# Altium integrated library CAN_Logger_V1I1.IntLib: 21 symbols
Pins are listed as number, name and electrical type; pins without a type are passive.

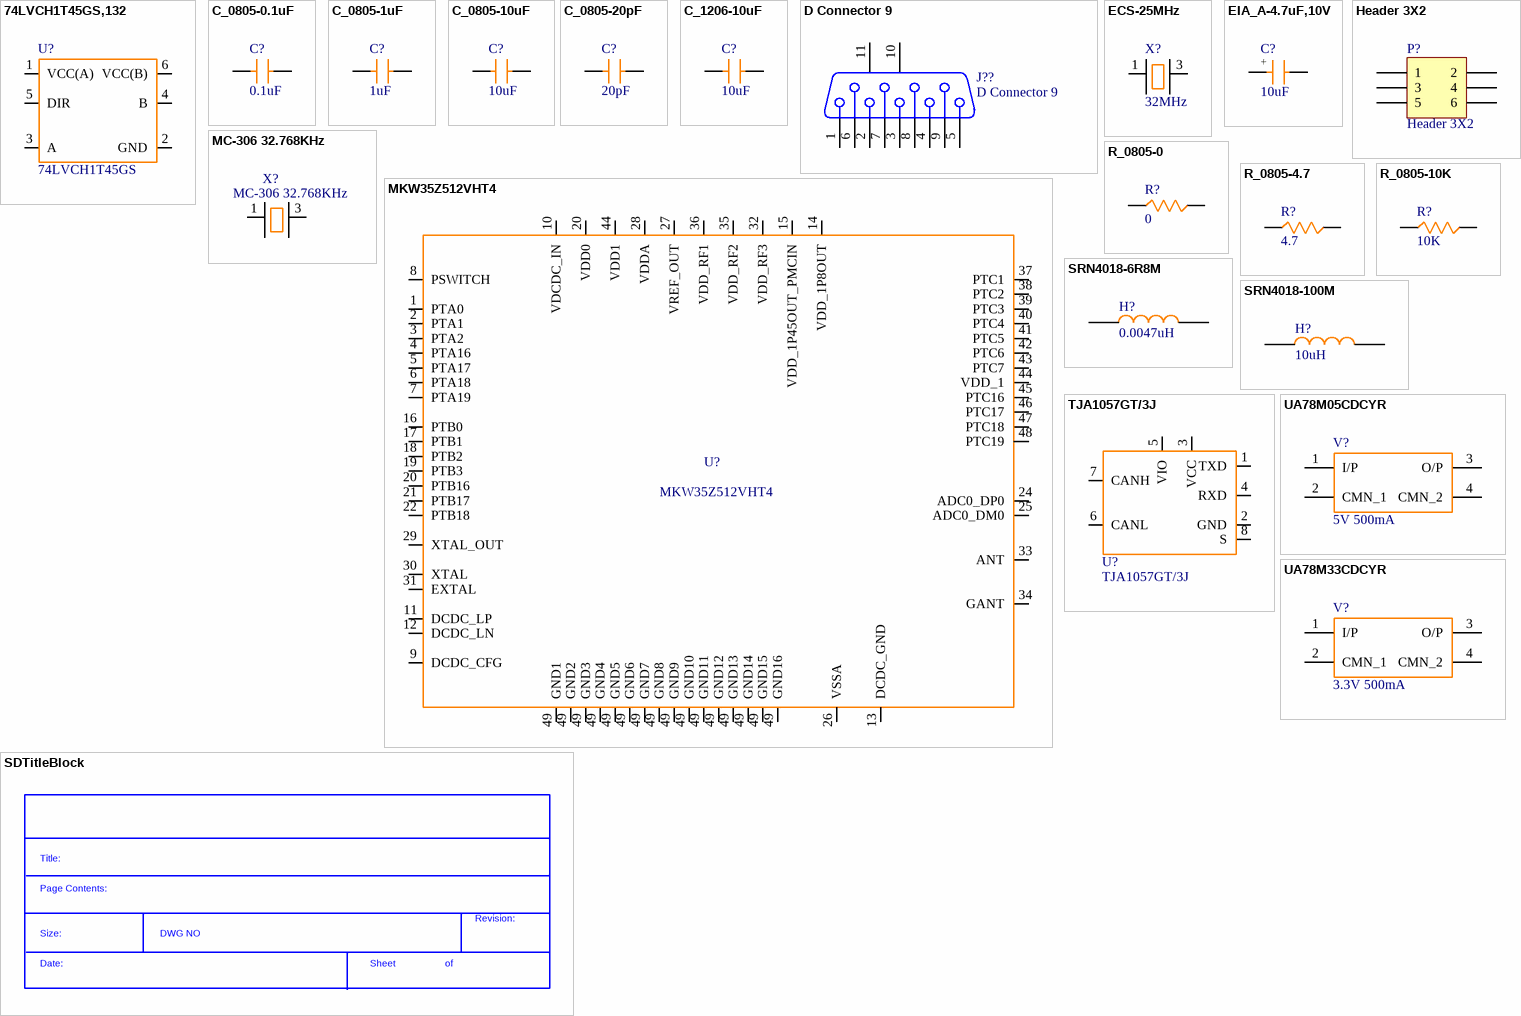
[diagram p0: symbols 74LVCH1T45GS,132 to UA78M33CDCYR]

## 74LVCH1T45GS,132
designator U?, comment 74LVCH1T45GS
Bus Transceivers 3.6V 250mW 8.2ns; Manufacturer: Nexperia; Manufacturer Part Number: 74LVCH1T45GS,132; Supply Voltage - Max: 5.5 V; Supply Voltage - Min: 1.2 V; Supplier 1: Mouser; RoHS: RoHS Compliant; Category: Bus Transceivers; Stock 1: 7431; Pricing 1: 1=0.590, 10=0.487, 100=0.314, 1000=0.252, 5000=0.212, 10000=0.204, 25000=0.197, 50000=0.193 (USD); Package / Case: XSON-6; Packaging: Cut Tape; Brand: Nexperia; Mounting Style: SMD/SMT; Maximum Operating Temperature: + 125 C; Pd - Power Dissipation: 250 mW; Product Type: Bus Transceivers; Propagation Delay Time: 8.2 ns; Standard Pack Qty: 5000; Subcategory: Logic ICs; RoHS - Mouser: Y; Minimum Order Quantity: 1; Reeling: True; ComponentLink1URL: https://www.mouser.com/datasheet/2/916/74LVC_LVCH1T45-1319147.pdf; ComponentLink1Description: https://www.mouser.com/datasheet/2/916/74LVC_LVCH1T45-1319147.pdf; Supplier Part Number 1: 771-74LVCH1T45GS132
footprint 74LVCH1T45GS,132
pins: 1 VCC(A), 2 GND, 3 A, 4 B, 5 DIR, 6 VCC(B)

## C_0805-0.1uF
designator C?, comment 0.1uF
Multilayer Ceramic Capacitors MLCC - SMD/SMT 0.1uF 10% 50V AEC-Q200; Manufacturer: Yageo; Manufacturer Part Number: AS0805KKX7R9BB104; Voltage Rating DC: 50 VDC; Capacitance - nF: 100 nF; Capacitance - pF: 100000 pF; CNHTS: 8532241000; Dielectric: X7R; TARIC: 8532240000; Product Status: New Product; Supplier 1: Mouser; RoHS: RoHS Compliant; Category: Multilayer Ceramic Capacitors MLCC - SMD/SMT; Stock 1: 30283; Pricing 1: 1=0.670, 10=0.461, 100=0.262, 500=0.238, 1000=0.165, 3000=0.156, 6000=0.146, 9000=0.136, 24000=0.122 (USD); Capacitance: 0.1 uF; Height: 1.25 mm; Length: 2 mm; Package / Case: 0805 (2012 metric); Packaging: Cut Tape; Product: Automotive MLCCs; Series: AS; Termination Style: SMD/SMT; Tolerance: 10 %; Width: 1.25 mm; Brand: Yageo; Case Code - in: 0805; Case Code - mm: 2212; HTS Code: 8532240020; Maximum Operating Temperature: + 125 C; Minimum Operating Temperature: - 55 C; Product Type: Ceramic Capacitors; Standard Pack Qty: 3000; Subcategory: Capacitors; Termination: Flexible (Soft); RoHS - Mouser: Y; Minimum Order Quantity: 1; Reeling: True; ComponentLink1URL: http://www.mouser.com/datasheet/2/447/yageodocoutput-1313910.pdf; ComponentLink1Description: http://www.mouser.com/datasheet/2/447/yageodocoutput-1313910.pdf; Supplier Part Number 1: 603-AS0805KKX79BB104
footprint C0805
pins: 1, 2

## C_0805-1uF
designator C?, comment 1uF
Multilayer Ceramic Capacitors MLCC - SMD/SMT 10V 1uF X7R 0805 10%; Manufacturer: KEMET; Manufacturer Part Number: C0805C105K8RAC7210; Voltage Rating DC: 10 VDC; Capacitance - nF: 1000 nF; Class: Class 2; Product Status: New Product; Supplier 1: Mouser; RoHS: RoHS Compliant; Category: Multilayer Ceramic Capacitors MLCC - SMD/SMT; Stock 1: 38596; Pricing 1: 1=0.230, 10=0.104, 100=0.064, 500=0.057, 1000=0.048, 2000=0.041, 10000=0.036, 15000=0.032, 45000=0.028 (USD); Capacitance: 1 uF; Height: 0.9 mm; Length: 2 mm; Package / Case: 0805 (2012 metric); Packaging: Cut Tape; Product: General Type MLCCs; Series: SMD Comm X7R; Termination Style: SMD/SMT; Tolerance: 10 %; Width: 1.25 mm; Brand: KEMET; Case Code - in: 0805; Case Code - mm: 2012; Dielectric: X7R; Maximum Operating Temperature: + 125 C; Minimum Operating Temperature: - 55 C; Product Type: Ceramic Capacitors; Standard Pack Qty: 15000; Subcategory: Capacitors; Termination: Standard; RoHS - Mouser: Y; Minimum Order Quantity: 1; Reeling: True; ComponentLink1URL: https://www.mouser.com/datasheet/2/212/KEM_C1002_X7R_SMD-1102033.pdf; ComponentLink1Description: https://www.mouser.com/datasheet/2/212/KEM_C1002_X7R_SMD-1102033.pdf; Supplier Part Number 1: 80-C0805C105K8R7210
footprint C0805
pins: 1, 2

## C_0805-10uF
designator C?, comment 10uF
Multilayer Ceramic Capacitors MLCC - SMD/SMT 10uF 10% 25V; Manufacturer: Yageo; Manufacturer Part Number: CC0805KFX5R8BB106; Type: MLCC Surface Mount Ceramic Capacitor; Voltage Rating DC: 25 VDC; Class: Class 2; CNHTS: 8532241000; Dielectric: X5R; TARIC: 8532240000; Product Status: New Product; Supplier 1: Mouser; RoHS: RoHS Compliant; Category: Multilayer Ceramic Capacitors MLCC - SMD/SMT; Stock 1: 9112; Pricing 1: 1=0.550, 10=0.342, 100=0.175, 1000=0.158, 2500=0.110, 10000=0.106, 20000=0.103, 50000=0.096, 100000=0.089 (USD); Capacitance: 10 uF; Height: 1.25 mm; Length: 2 mm; Package / Case: 0805 (2012 metric); Packaging: Cut Tape; Product: General Type MLCCs; Series: CC; Termination Style: SMD/SMT; Tolerance: 10 %; Width: 1.25 mm; Brand: Yageo; Case Code - in: 0805; Case Code - mm: 2012; HTS Code: 8532240020; Maximum Operating Temperature: + 85 C; Minimum Operating Temperature: - 55 C; Product Type: Ceramic Capacitors; Standard Pack Qty: 10000; Subcategory: Capacitors; Termination: Standard; RoHS - Mouser: Y; Minimum Order Quantity: 1; Reeling: True; ComponentLink1URL: http://www.mouser.com/datasheet/2/447/UPY-GPHC_X5R_4V-to-50V_25-1131599.pdf; ComponentLink1Description: http://www.mouser.com/datasheet/2/447/UPY-GPHC_X5R_4V-to-50V_25-1131599.pdf; Supplier Part Number 1: 603-CC0805KFX5R8BB10
footprint C0805
pins: 1, 2

## C_0805-20pF
designator C?, comment 20pF
Multilayer Ceramic Capacitors MLCC - SMD/SMT 20pF 100volts C0G 5%; Manufacturer: Vishay / Vitramon; Manufacturer Part Number: VJ0805A200JXBAC; Type: Commercial SMD MLCCs; Voltage Rating DC: 100 VDC; Class: Class 1; CNHTS: 8532241000; Compliance: Take; Dielectric: C0G (NP0); TARIC: 8532240000; Supplier 1: Mouser; RoHS: In Transition; Category: Multilayer Ceramic Capacitors MLCC - SMD/SMT; Stock 1: 4908; Pricing 1: 1=0.330, 50=0.250, 100=0.200, 500=0.160, 1000=0.130, 3000=0.090, 6000=0.077, 9000=0.075, 12000=0.072 (USD); Capacitance: 20 pF; Height: 1.45 mm; Length: 2 mm; Package / Case: 0805 (2012 metric); Packaging: Cut Tape; Product: General Type MLCCs; Series: VJ COMM; Termination Style: SMD/SMT; Tolerance: 5 %; Width: 1.25 mm; Brand: Vishay / Vitramon; Case Code - in: 0805; Case Code - mm: 2012; HTS Code: 8532240020; Maximum Operating Temperature: + 150 C; Minimum Operating Temperature: - 55 C; Product Type: Ceramic Capacitors; Standard Pack Qty: 3000; Subcategory: Capacitors; Termination: Standard; RoHS - Mouser: T; Minimum Order Quantity: 1; Reeling: True; ComponentLink1URL: https://www.mouser.com/datasheet/2/427/vjcommercialseries-222796.pdf; ComponentLink1Description: https://www.mouser.com/datasheet/2/427/vjcommercialseries-222796.pdf; Supplier Part Number 1: 77-VJ0805A200JXBAC
footprint C0805
pins: 1, 2

## C_1206-10uF
designator C?, comment 10uF
Multilayer Ceramic Capacitors MLCC - SMD/SMT 10uF Y5V -20/+80% 50V; Manufacturer: Yageo; Manufacturer Part Number: CC1210ZKY5V9BB106; Tolerance: - 20 %, + 80 %; Type: MLCC Surface Mount Ceramic Capacitor; Voltage Rating DC: 50 VDC; Class: Class 2; Supplier 1: Mouser; RoHS: RoHS Compliant; Category: Multilayer Ceramic Capacitors MLCC - SMD/SMT; Stock 1: 4065; Pricing 1: 1=0.760, 10=0.524, 100=0.298, 500=0.287, 1000=0.279, 2000=0.270 (USD); Capacitance: 10 uF; Height: 1.5 mm; Length: 3.2 mm; Package / Case: 1210 (3225 metric); Packaging: Cut Tape; Product: General Type MLCCs; Series: CC; Termination Style: SMD/SMT; Width: 2.5 mm; Brand: Yageo; Case Code - in: 1210; Case Code - mm: 3225; Dielectric: Y5V; Maximum Operating Temperature: + 85 C; Minimum Operating Temperature: - 30 C; Product Type: Ceramic Capacitors; Standard Pack Qty: 2000; Subcategory: Capacitors; Termination: Standard; RoHS - Mouser: Y; Minimum Order Quantity: 1; Reeling: True; ComponentLink1URL: https://www.mouser.com/datasheet/2/447/UPY-GPHC_Y5V_6.3V-to-50V_8-1280790.pdf; ComponentLink1Description: https://www.mouser.com/datasheet/2/447/UPY-GPHC_Y5V_6.3V-to-50V_8-1280790.pdf; Supplier Part Number 1: 603-CC121ZKY5V9BB106
footprint C1206
pins: 1, 2

## D Connector 9
designator J??
Receptacle Assembly, 9 Position, Right Angle; PackageDocument: O; Positions: 9; Published: 15-Jun-2001; LatestRevisionDate: 17-Jul-2002; LatestRevisionNote: Re-released for DXP Platform.; DatasheetDocument: 1-Sep-1999; PackageReference: 788750; Publisher: Altium Limited; Orientation: Right Angle; Gender: Receptacle
footprint DSUB1.385-2H9 (Connector; D Subminiature; 9 Position; Right Angle; Pitch 1.385 mm)
signal-integrity model Connector
pins: 1, 2, 3, 4, 5, 6, 7, 8, 9, 10 MH1, 11 MH2

## ECS-25MHz
designator X?, comment 32MHz
Crystals 25MHz 20ppm 18pF -40C +85C; Manufacturer: ECS; Manufacturer Part Number: ECS-250-18-30B-JTN-TR; Drive Level: 300 uW; Supplier 1: Mouser; RoHS: RoHS Compliant; Category: Crystals; Stock 1: 1092; Pricing 1: 1=0.700, 10=0.575, 50=0.518, 100=0.460, 500=0.438, 1000=0.368, 2000=0.345, 5000=0.334, 10000=0.322 (USD); Frequency: 25 MHz; Frequency Stability: 20 PPM; Height: 0.85 mm; Length: 5 mm; Load Capacitance: 18 pF; Package / Case: 5 mm x 3.2 mm; Packaging: Cut Tape; Product: Crystals; Series: ECX-53B; Termination Style: SMD/SMT; Tolerance: 20 PPM; Width: 3.2 mm; Brand: ECS; Mounting Style: SMD/SMT; Maximum Operating Temperature: + 85 C; Minimum Operating Temperature: - 40 C; Product Type: Crystals; Standard Pack Qty: 1000; Subcategory: Crystals; RoHS - Mouser: Y; Minimum Order Quantity: 1; Reeling: True; ComponentLink1URL: https://www.mouser.com/datasheet/2/122/ecx_53b-1479911.pdf; ComponentLink1Description: https://www.mouser.com/datasheet/2/122/ecx_53b-1479911.pdf; Supplier Part Number 1: 520-250-18-30B-JTNT
footprint ECS-250-18-30B-JTN-TR (Crystal 25mhz 18pf Smd)
pins: 1, 3

## EIA_A-4.7uF,10V
designator C?, comment 10uF
Tantalum Capacitors - Polymer SMD 10V 4.7uF 20% 1206 ESR=300mOhm; Manufacturer: AVX; Manufacturer Part Number: TCJK475M010R0300; Mfr Case Code: K Case; Type: Tantalum Solid Electrolytic Chip Capacitors with Conductive Polymer Electrode; Voltage Rating DC: 10 VDC; ESR: 300 mOhms; Leakage Current: 4.7 uA; Dissipation Factor DF: 6 %; Ripple Current: 400 mA; Supplier 1: Mouser; RoHS: RoHS Compliant; Category: Tantalum Capacitors - Polymer SMD; Stock 1: 1411; Pricing 1: 1=1.08, 10=0.911, 100=0.485, 500=0.437, 1000=0.398, 3000=0.267, 24000=0.257, 45000=0.247 (USD); Capacitance: 4.7 uF; Height: 1 mm; Length: 3.2 mm; Package / Case: 1206 (3216 metric); Packaging: Cut Tape; Product: Tantalum Organic Polymer Standard Grade; Series: TCJ; Termination Style: SMD/SMT; Tolerance: 20 %; Width: 1.6 mm; Brand: AVX; Case Code - in: 1206; Case Code - mm: 3216; Maximum Operating Temperature: + 105 C; Minimum Operating Temperature: - 55 C; Product Type: Tantalum Capacitors; Standard Pack Qty: 3000; Subcategory: Capacitors; RoHS - Mouser: Y; Minimum Order Quantity: 1; Reeling: True; ComponentLink1URL: https://www.mouser.com/datasheet/2/40/tcj-776064.pdf; ComponentLink1Description: https://www.mouser.com/datasheet/2/40/tcj-776064.pdf; Supplier Part Number 1: 581-TCJK475M010R0300
footprint C1206
pins: 1, 2
text: +

## Header 3X2
designator P?
Header, 3-Pin, Dual row; LatestRevisionDate: 17-Jul-2002; LatestRevisionNote: Re-released for DXP Platform.; Publisher: Altium Limited
footprint HDR2X3 (Connector; Header; 3x2 Position)
signal-integrity model Connector
pins: 1, 2, 3, 4, 5, 6

## MC-306 32.768KHz
designator X?
Crystals 32.768KHz 12.5pF 20ppm -40C +85C; Manufacturer: Epson Timing; Manufacturer Part Number: MC-306 32.7680K-A0:ROHS; ESR: 50 kOhms; CNHTS: 8541600000; Drive Level: 1 uW; MXHTS: 85416001; Supplier 1: Mouser; RoHS: RoHS Compliant By Exemption; Category: Crystals; Stock 1: 78752; Pricing 1: 1=0.430, 10=0.350, 50=0.316, 100=0.280, 500=0.246, 1000=0.224, 2000=0.210, 5000=0.203, 10000=0.196 (USD); Frequency: 32.768 kHz; Height: 2.54 mm; Length: 8 mm; Load Capacitance: 12.5 pF; Package / Case: 8 mm x 3.8 mm; Packaging: Cut Tape; Series: MC-306/MC-405/MC-406; Termination Style: SMD/SMT; Tolerance: 20 PPM; Type: Quartz Crystal; Width: 3.8 mm; Brand: Epson Timing; Mounting Style: SMD/SMT; HTS Code: 8541600010; Maximum Operating Temperature: + 85 C; Minimum Operating Temperature: - 40 C; Product Type: Crystals; Standard Pack Qty: 1000; Subcategory: Crystals; TARIC: 8541600000; RoHS - Mouser: E; Minimum Order Quantity: 1; Reeling: True; ComponentLink1URL: http://www.mouser.com/datasheet/2/137/C-306_en-1109110.pdf; ComponentLink1Description: http://www.mouser.com/datasheet/2/137/C-306_en-1109110.pdf; Supplier Part Number 1: 732-MC30632.7680KA0R
footprint MC-306_32.768KHz (Crystals 32.768KHz 12.5pF 20ppm -40C +85C)
pins: 1, 3

## MKW35Z512VHT4
designator U?
RF System on a Chip - SoC Kinetis W 32-bit MCU, ARM Cortex-M0+, 512KB Flash, 64KB SRAM, 48MHz, BLE, 48LQFN; Manufacturer: NXP Semiconductors; Operating Frequency: 2.4 GHz; Output Power: 3.5 dBm; Sensitivity: - 95 dBm; Interface Type: Serial; ADC Resolution: 16 bit; Core: ARM Cortex M0+; Operating Supply Voltage: 2.1 V to 3.6 V; Supply Current Receiving: 6.3 mA; Supply Current Transmitting: 5.7 mA; Product Status: New Product; Supplier 1: Mouser; Manufacturer Part Number: MKW35Z512VHT4; RoHS: RoHS Compliant; Category: RF System on a Chip - SoC; Stock 1: 259; Pricing 1: 1=6.12, 10=5.53, 25=4.96, 100=4.58, 250=4.50, 500=3.99, 1000=3.47, 2000=3.34 (USD); Package / Case: QFN-48; Program Memory Type: Flash; Series: KW35; Type: Bluetooth; Brand: NXP Semiconductors; Data RAM Size: 64 kB; Data RAM Type: SRAM; Mounting Style: SMD/SMT; Program Memory Size: 512 kB; Maximum Clock Frequency: 48 MHz; Maximum Operating Temperature: + 105 C; Minimum Operating Temperature: - 40 C; Product Type: RF System on a Chip - SoC; Standard Pack Qty: 260; Subcategory: Wireless & RF Integrated Circuits; Tradename: Kinetis; RoHS - Mouser: Y; Minimum Order Quantity: 1; Reeling: False; ComponentLink1URL: https://www.mouser.com/datasheet/2/302/MKW36Z512-1483673.pdf; ComponentLink1Description: https://www.mouser.com/datasheet/2/302/MKW36Z512-1483673.pdf; Supplier Part Number 1: 771-MKW35Z512VHT4
footprint MKW35Z512VHT4 (RF System on a Chip - SoC Kinetis W 32-bit MCU, ARM Cortex-M0+, 512KB Flash, 64KB SRAM, 48MHz, BLE, 48LQFN)
pins: 1 PTA0, 2 PTA1, 3 PTA2, 4 PTA16, 5 PTA17, 6 PTA18, 7 PTA19, 8 PSWITCH, 9 DCDC_CFG, 10 VDCDC_IN, 11 DCDC_LP, 12 DCDC_LN, 13 DCDC_GND, 14 VDD_1P8OUT, 15 VDD_1P45OUT_PMCIN, 16 PTB0, 17 PTB1, 18 PTB2, 19 PTB3, 20 PTB16, 20 VDD0, 21 PTB17, 22 PTB18, 24 ADC0_DP0, 25 ADC0_DM0, 26 VSSA, 27 VREF_OUT, 28 VDDA, 29 XTAL_OUT, 30 XTAL, 31 EXTAL, 32 VDD_RF3, 33 ANT, 34 GANT, 35 VDD_RF2, 36 VDD_RF1, 37 PTC1, 38 PTC2, 39 PTC3, 40 PTC4, 41 PTC5, 42 PTC6, 43 PTC7, 44 VDD_1, 44 VDD1, 45 PTC16, 46 PTC17, 47 PTC18, 48 PTC19, 49 GND1, 49 GND2, 49 GND3, 49 GND4, 49 GND5, 49 GND6, 49 GND7, 49 GND8, 49 GND9, 49 GND10, 49 GND11, 49 GND12, 49 GND13, 49 GND14, 49 GND15, 49 GND16

## R_0805-0
designator R?, comment 0
Current Sense Resistors - SMD 0 ohm Jumper 1/2W; Manufacturer: Yageo; Manufacturer Part Number: PA0805-R-470RL; Power Rating: 500 mW (1/2 W); Resistance: 0 Ohms; CNHTS: 8533211000; TARIC: 8533210000; Product Status: New Product; Supplier 1: Mouser; RoHS: RoHS Compliant; Category: Current Sense Resistors - SMD; Stock 1: 3927; Pricing 1: 1=1.30, 10=1.06, 100=0.706, 500=0.595, 1000=0.495, 5000=0.431, 10000=0.421, 25000=0.409 (USD); Application: Current Sense; Length: 2.03 mm; Packaging: Cut Tape; Product: Current Sense Chip Resistor Surface Mount; Series: PA_L; Technology: Metal Element; Termination Style: SMD/SMT; Tolerance: -; Type: Low TCR Current Sense Resistor; Width: 1.27 mm; Brand: Yageo; Mounting Style: PCB Mount; Case Code - in: 0805; Case Code - mm: 2012; HTS Code: 8533210030; Maximum Operating Temperature: + 155 C; Minimum Operating Temperature: - 55 C; Product Type: Current Sense Resistors; Standard Pack Qty: 5000; Subcategory: Resistors; Termination: 2 Terminal; RoHS - Mouser: Y; Minimum Order Quantity: 1; Reeling: True; ComponentLink1URL: http://www.mouser.com/datasheet/2/447/PYu-PA0805_L_51_RoHS_0-1480254.pdf; ComponentLink1Description: http://www.mouser.com/datasheet/2/447/PYu-PA0805_L_51_RoHS_0-1480254.pdf; Supplier Part Number 1: 603-PA0805-R-470RL
footprint R0805
pins: 1, 2

## R_0805-4.7
designator R?, comment 4.7
Thin Film Resistors - SMD 4.7 ohm 1% 50 ppm High-Precision; Manufacturer: Yageo; Manufacturer Part Number: RT0805FRE074R7L; Power Rating: 125 mW (1/8 W); Resistance: 4.7 Ohms; Temperature Coefficient: 50 PPM / C; Voltage Rating: 150 V; Product Status: New Product; Supplier 1: Mouser; RoHS: RoHS Compliant; Category: Thin Film Resistors - SMD; Stock 1: 0; Pricing 1: 1=0.180, 10=0.112, 100=0.037, 1000=0.026, 5000=0.019, 10000=0.018, 25000=0.017 (USD); Features: -; Height: 0.5 mm; Length: 2 mm; Package / Case: 0805 (2012 metric); Packaging: Cut Tape; Product: Precision Resistors Thin Film SMD; Series: RT; Termination Style: SMD/SMT; Tolerance: 1 %; Width: 1.25 mm; Brand: Yageo; Case Code - in: 0805; Case Code - mm: 2012; Maximum Operating Temperature: + 155 C; Minimum Operating Temperature: - 55 C; Standard Pack Qty: 5000; RoHS - Mouser: Y; Minimum Order Quantity: 1; Reeling: True; ComponentLink1URL: https://www.mouser.com/datasheet/2/447/PYu-RT_1-to-0.01_RoHS_L_9-1222720.pdf; ComponentLink1Description: https://www.mouser.com/datasheet/2/447/PYu-RT_1-to-0.01_RoHS_L_9-1222720.pdf; Supplier Part Number 1: 603-RT0805FRE074R7L
footprint R0805
pins: 1, 2

## R_0805-10K
designator R?, comment 10K
Thick Film Resistors - SMD 10K   OHM   1% 1/4W; Manufacturer: Yageo; Manufacturer Part Number: RC0805FR-7W10KL; Power Rating: 125 mW, 250 mW; Resistance: 10 kOhms; Temperature Coefficient: 100 PPM / C; Voltage Rating: 150 V; CNHTS: 8533211000; MXHTS: 85332101; TARIC: 8533210000; Supplier 1: Mouser; RoHS: RoHS Compliant; Category: Thick Film Resistors - SMD; Stock 1: 8240; Pricing 1: 1=0.190, 10=0.115, 100=0.038, 1000=0.026, 5000=0.020, 10000=0.019, 25000=0.018, 100000=0.017 (USD); Application: High Reliability; Features: -; Height: 0.5 mm; Length: 2 mm; Package / Case: 0805 (2012 metric); Packaging: Cut Tape; Product: Thick Film Resistors SMD; Series: RC; Technology: Thick Film; Termination Style: SMD/SMT; Tolerance: 1 %; Type: High Power; Width: 1.25 mm; Brand: Yageo; Mounting Style: PCB Mount; Case Code - in: 0805; Case Code - mm: 2012; HTS Code: 8533210030; Maximum Operating Temperature: + 155 C; Minimum Operating Temperature: - 55 C; Product Type: Thick Film Resistors; Standard Pack Qty: 5000; Subcategory: Resistors; RoHS - Mouser: Y; Minimum Order Quantity: 1; Reeling: True; ComponentLink1URL: http://www.mouser.com/datasheet/2/447/yageo_01152019_DESIGN_KITS_8_2012-1522572.pdf; ComponentLink1Description: http://www.mouser.com/datasheet/2/447/yageo_01152019_DESIGN_KITS_8_2012-1522572.pdf; Supplier Part Number 1: 603-RC0805FR-7W10KL
footprint R0805
pins: 1, 2

## SDTitleBlock
designator *?  (value not drawn)  (graphical)
text: Title:; Page Contents:; Revision:; Size:; DWG NO; Date:; Sheet; of

## SRN4018-6R8M
designator H?, comment 0.0047uH
Fixed Inductors 6.8uH 20% SMD 4018; Manufacturer: Bourns; Manufacturer Part Number: SRN4018-6R8M; Core Material: Ferrite; Maximum DC Current: 1.5 A; Maximum DC Resistance: 118 mOhms; Shielding: Shielded; CNHTS: 8504500000; MXHTS: 85045002; TARIC: 8504509590; Test Frequency: 100 kHz; Supplier 1: Mouser; RoHS: RoHS Compliant; Category: Fixed Inductors; Stock 1: 6120; Pricing 1: 1=0.360, 10=0.246, 100=0.224, 250=0.210, 500=0.188, 1000=0.152, 3000=0.133, 6000=0.132, 9000=0.131 (USD); Application: Power; Height: 1.8 mm; Inductance: 6.8 uH; Length: 4 mm; Packaging: Cut Tape; Product: Fixed Inductors; Series: SRN4018; Termination Style: SMD/SMT; Tolerance: 20 %; Width: 4 mm; Brand: Bourns; Mounting Style: PCB Mount; HTS Code: 8504508000; Maximum Operating Temperature: + 120 C; Minimum Operating Temperature: - 25 C; Product Type: Fixed Inductors; Standard Pack Qty: 3000; Subcategory: Inductors, Chokes & Coils; Termination: -; RoHS - Mouser: Y; Minimum Order Quantity: 1; Reeling: True; ComponentLink1URL: http://www.mouser.com/datasheet/2/54/rn4018-1391320.pdf; ComponentLink1Description: http://www.mouser.com/datasheet/2/54/rn4018-1391320.pdf; Supplier Part Number 1: 652-SRN4018-6R8M
footprint SRN4018 (Fixed Inductors 6.8uH 20% SMD 4018)
pins: 1, 2

## SRN4018-100M
designator H?, comment 10uH
Fixed Inductors 10uH 20% SMD 4018; Manufacturer: Bourns; Manufacturer Part Number: SRN4018-100M; Core Material: Ferrite; Maximum DC Current: 1.3 A; Maximum DC Resistance: 180 mOhms; Shielding: Shielded; CNHTS: 8504500000; MXHTS: 85045002; TARIC: 8504509590; Test Frequency: 100 kHz; Supplier 1: Mouser; RoHS: RoHS Compliant; Category: Fixed Inductors; Stock 1: 11328; Pricing 1: 1=0.360, 10=0.246, 100=0.224, 250=0.210, 500=0.188, 1000=0.152, 3000=0.133, 6000=0.132, 9000=0.122 (USD); Application: Power; Height: 1.8 mm; Inductance: 10 uH; Length: 4 mm; Packaging: Cut Tape; Product: Fixed Inductors; Series: SRN4018; Termination Style: SMD/SMT; Tolerance: 20 %; Width: 4 mm; Brand: Bourns; Mounting Style: PCB Mount; HTS Code: 8504508000; Maximum Operating Temperature: + 120 C; Minimum Operating Temperature: - 25 C; Product Type: Fixed Inductors; Standard Pack Qty: 3000; Subcategory: Inductors, Chokes & Coils; Termination: -; RoHS - Mouser: Y; Minimum Order Quantity: 1; Reeling: True; ComponentLink1URL: http://www.mouser.com/datasheet/2/54/rn4018-1391320.pdf; ComponentLink1Description: http://www.mouser.com/datasheet/2/54/rn4018-1391320.pdf; Supplier Part Number 1: 652-SRN4018-100M
footprint SRN4018 (Fixed Inductors 6.8uH 20% SMD 4018)
pins: 1, 2

## TJA1057GT/3J
designator U?
CAN Interface IC High-speed CAN transceiver; Manufacturer: NXP Semiconductors; Data Rate: 5 Mb/s; Number of Drivers: 1 Driver; Number of Receivers: 1 Receiver; Operating Supply Current: 80 mA; Operating Supply Voltage: 4.75 V to 5.25 V; Propagation Delay Time: 210 ns; Supply Voltage - Max: 5.25 V; Supply Voltage - Min: 4.75 V; Supplier 1: Mouser; Manufacturer Part Number: TJA1057GT/3J; RoHS: RoHS Compliant; Category: CAN Interface IC; Stock 1: 18764; Pricing 1: 1=0.910, 10=0.771, 100=0.592, 500=0.523, 1000=0.413, 2500=0.367, 10000=0.353, 25000=0.342 (USD); Package / Case: SO-8; Packaging: Cut Tape; Product: CAN Transceivers; Series: TJA1057; Type: High Speed; Brand: NXP Semiconductors; Mounting Style: SMD/SMT; Maximum Operating Temperature: + 150 C; Minimum Operating Temperature: - 40 C; Product Type: CAN Interface IC; Standard Pack Qty: 2500; Subcategory: Interface ICs; RoHS - Mouser: Y; Minimum Order Quantity: 1; Reeling: True; ComponentLink1URL: https://www.mouser.com/datasheet/2/302/TJA1057-1127934.pdf; ComponentLink1Description: https://www.mouser.com/datasheet/2/302/TJA1057-1127934.pdf; Supplier Part Number 1: 771-TJA1057GT/3J
footprint TJA1057GT/3J (CAN Interface IC High-speed CAN transceive)
pins: 1 TXD, 2 GND, 3 VCC, 4 RXD, 5 VIO, 6 CANL, 7 CANH, 8 S

## UA78M05CDCYR
designator V?, comment 5V 500mA
Linear Voltage Regulators 5.0V 500mA Fxd Pos; Manufacturer: Texas Instruments; Manufacturer Part Number: UA78M05CDCYR; Input Voltage MAX: 25 V; Number of Outputs: 1 Output; Output Type: Fixed; PSRR / Ripple Rejection - Typ: 80 dB; Input Voltage MIN: 7 V; Line Regulation: 100 mV; Polarity: Positive; Supplier 1: Mouser; RoHS: RoHS Compliant; Category: Linear Voltage Regulators; Stock 1: 50522; Pricing 1: 1=0.620, 10=0.510, 100=0.330, 1000=0.264, 2500=0.240, 5000=0.223, 10000=0.215, 25000=0.207, 50000=0.199 (USD); Height: 1.6 mm; Length: 6.5 mm; Operating Temperature Range: - 40 C to + 125 C; Output Current: 500 mA; Output Voltage: 5 V; Package / Case: SOT-223-4; Packaging: Cut Tape; Series: UA78M05; Width: 3.5 mm; Brand: Texas Instruments; Mounting Style: SMD/SMT; Load Regulation: 100 mV; Maximum Operating Temperature: + 125 C; Minimum Operating Temperature: - 40 C; Product Type: Linear Voltage Regulators; Standard Pack Qty: 2500; Subcategory: PMIC - Power Management ICs; RoHS - Mouser: Y; Minimum Order Quantity: 1; Reeling: True; Supplier Part Number 1: 595-UA78M05CDCYR
footprint UA78M05/33-CDCYR (Linear Voltage Regulators 5.0V/3.3V 500mA Fxd Pos)
pins: 1 I/P, 2 CMN_1, 3 O/P, 4 CMN_2

## UA78M33CDCYR
designator V?, comment 3.3V 500mA
Linear Voltage Regulators 3.3V 500mA Fixd Pos; Manufacturer: Texas Instruments; Manufacturer Part Number: UA78M33CDCYR; Input Voltage MAX: 25 V; Number of Outputs: 1 Output; Output Type: Fixed; PSRR / Ripple Rejection - Typ: 80 dB; Input Voltage MIN: 5.3 V; Line Regulation: 100 mV; Polarity: Positive; Supplier 1: Mouser; RoHS: RoHS Compliant; Category: Linear Voltage Regulators; Stock 1: 58727; Pricing 1: 1=0.580, 10=0.480, 100=0.310, 1000=0.248, 2500=0.225, 5000=0.210, 10000=0.202, 25000=0.194, 50000=0.187 (USD); Height: 1.6 mm; Length: 6.5 mm; Operating Temperature Range: - 40 C to + 125 C; Output Current: 500 mA; Output Voltage: 3.3 V; Package / Case: SOT-223-4; Packaging: Cut Tape; Series: UA78M33; Width: 3.5 mm; Brand: Texas Instruments; Mounting Style: SMD/SMT; Load Regulation: 100 mV; Maximum Operating Temperature: + 125 C; Minimum Operating Temperature: - 40 C; Product Type: Linear Voltage Regulators; Standard Pack Qty: 2500; Subcategory: PMIC - Power Management ICs; RoHS - Mouser: Y; Minimum Order Quantity: 1; Reeling: True; Supplier Part Number 1: 595-UA78M33CDCYR
footprint UA78M05/33-CDCYR (Linear Voltage Regulators 5.0V/3.3V 500mA Fxd Pos)
pins: 1 I/P, 2 CMN_1, 3 O/P, 4 CMN_2